# Altium schematic symbol library ReleLib.SchLib: 1 symbol
Pins are listed as number, name and electrical type; pins without a type are passive.

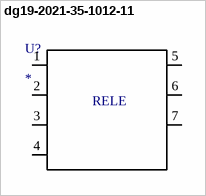
[diagram p0: symbol dg19-2021-35-1012-11]

## dg19-2021-35-1012-11
designator U?
footprint DG19-2021-35-1012-11
pins: 1 output1 (power), 2 output2 (power), 3 VCC_NO (power), 4 VCC_NC (power), 5 CP_1 (power), 6 CP_2 (power), 7 output3 (power)
text: RELE